# Altium schematic symbol library SCH - ADC - MAX11331.SCHLIB: 1 symbol
Pins are listed as number, name and electrical type; pins without a type are passive.

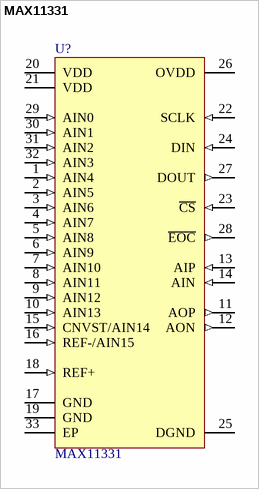
[diagram p0: symbol MAX11331]

## MAX11331
designator U?
MAX11331ATJ+, 12Bit 16 Channels SAR ADC
pins: 1 AIN4 (in), 2 AIN5 (in), 3 AIN6 (in), 4 AIN7 (in), 5 AIN8 (in), 6 AIN9 (in), 7 AIN10 (in), 8 AIN11 (in), 9 AIN12 (in), 10 AIN13 (in), 11 AOP (out), 12 AON (out), 13 AIP (in), 14 AIN (in), 15 CNVST/AIN14 (in), 16 REF-/AIN15 (in), 17 GND (power), 18 REF+ (in), 19 GND (power), 20 VDD (power), 21 VDD (power), 22 SCLK (in), 23 ~{CS} (in), 24 DIN (in), 25 DGND, 26 OVDD (power), 27 DOUT (out), 28 ~{EOC} (out), 29 AIN0 (in), 30 AIN1 (in), 31 AIN2 (in), 32 AIN3 (in), 33 EP (power)